# EAGLE library part TB6612FNG (library ic)
双路电机驱动
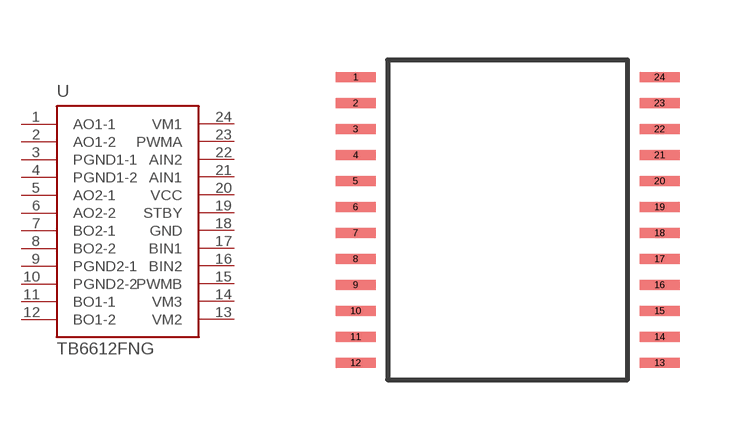
[diagram p0: symbol with the pads of SSOP24-P-300-0.65A; footprint SSOP24-P-300-0.65A]

Designator prefix U

## TB6612FNG  [SSOP24-P-300-0.65A]
1  AO1-1
2  AO1-2
3  PGND1-1
4  PGND1-2
5  AO2-1
6  AO2-2
7  BO2-1
8  BO2-2
9  PGND2-1
10  PGND2-2
11  BO1-1
12  BO1-2
13  VM2
14  VM3
15  PWMB
16  BIN2
17  BIN1
18  GND
19  STBY
20  VCC
21  AIN1
22  AIN2
23  PWMA
24  VM1

## Footprint SSOP24-P-300-0.65A (pad centres in mm)
SSOP24-P-300-0.65A
smd 1 x 0.25: 1 -3.8,3.575; 2 -3.8,2.925; 3 -3.8,2.275; 4 -3.8,1.625; 5 -3.8,0.975; 6 -3.8,0.325; 7 -3.8,-0.325; 8 -3.8,-0.975; 9 -3.8,-1.625; 10 -3.8,-2.275; 11 -3.8,-2.925; 12 -3.8,-3.575; 13 3.8,-3.575; 14 3.8,-2.925; 15 3.8,-2.275; 16 3.8,-1.625; 17 3.8,-0.975; 18 3.8,-0.325; 19 3.8,0.325; 20 3.8,0.975; 21 3.8,1.625; 22 3.8,2.275; 23 3.8,2.925; 24 3.8,3.575